# Altium schematic symbol library ricoh-power.SchLib: 1 symbol
Pins are listed as number, name and electrical type; pins without a type are passive.

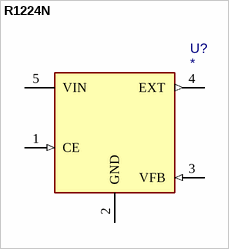
[diagram p0: symbol R1224N]

## R1224N
designator U?
Value: R1224N; PN: *; Package: *; ExtraInfo: *
footprint R-PDS0-G5 (SOT23, 5-Leads, Body 2.2x2.4mm (max), Pitch 0.65mm, IPC Medium Density)
pins: 1 CE (in), 2 GND (power), 3 VFB (in), 4 EXT (out), 5 VIN (power)